# Altium integrated library Analog Devices Data Converters Analog-to-Digital Converters.IntLib: 2400 symbols (part 92 of 338)
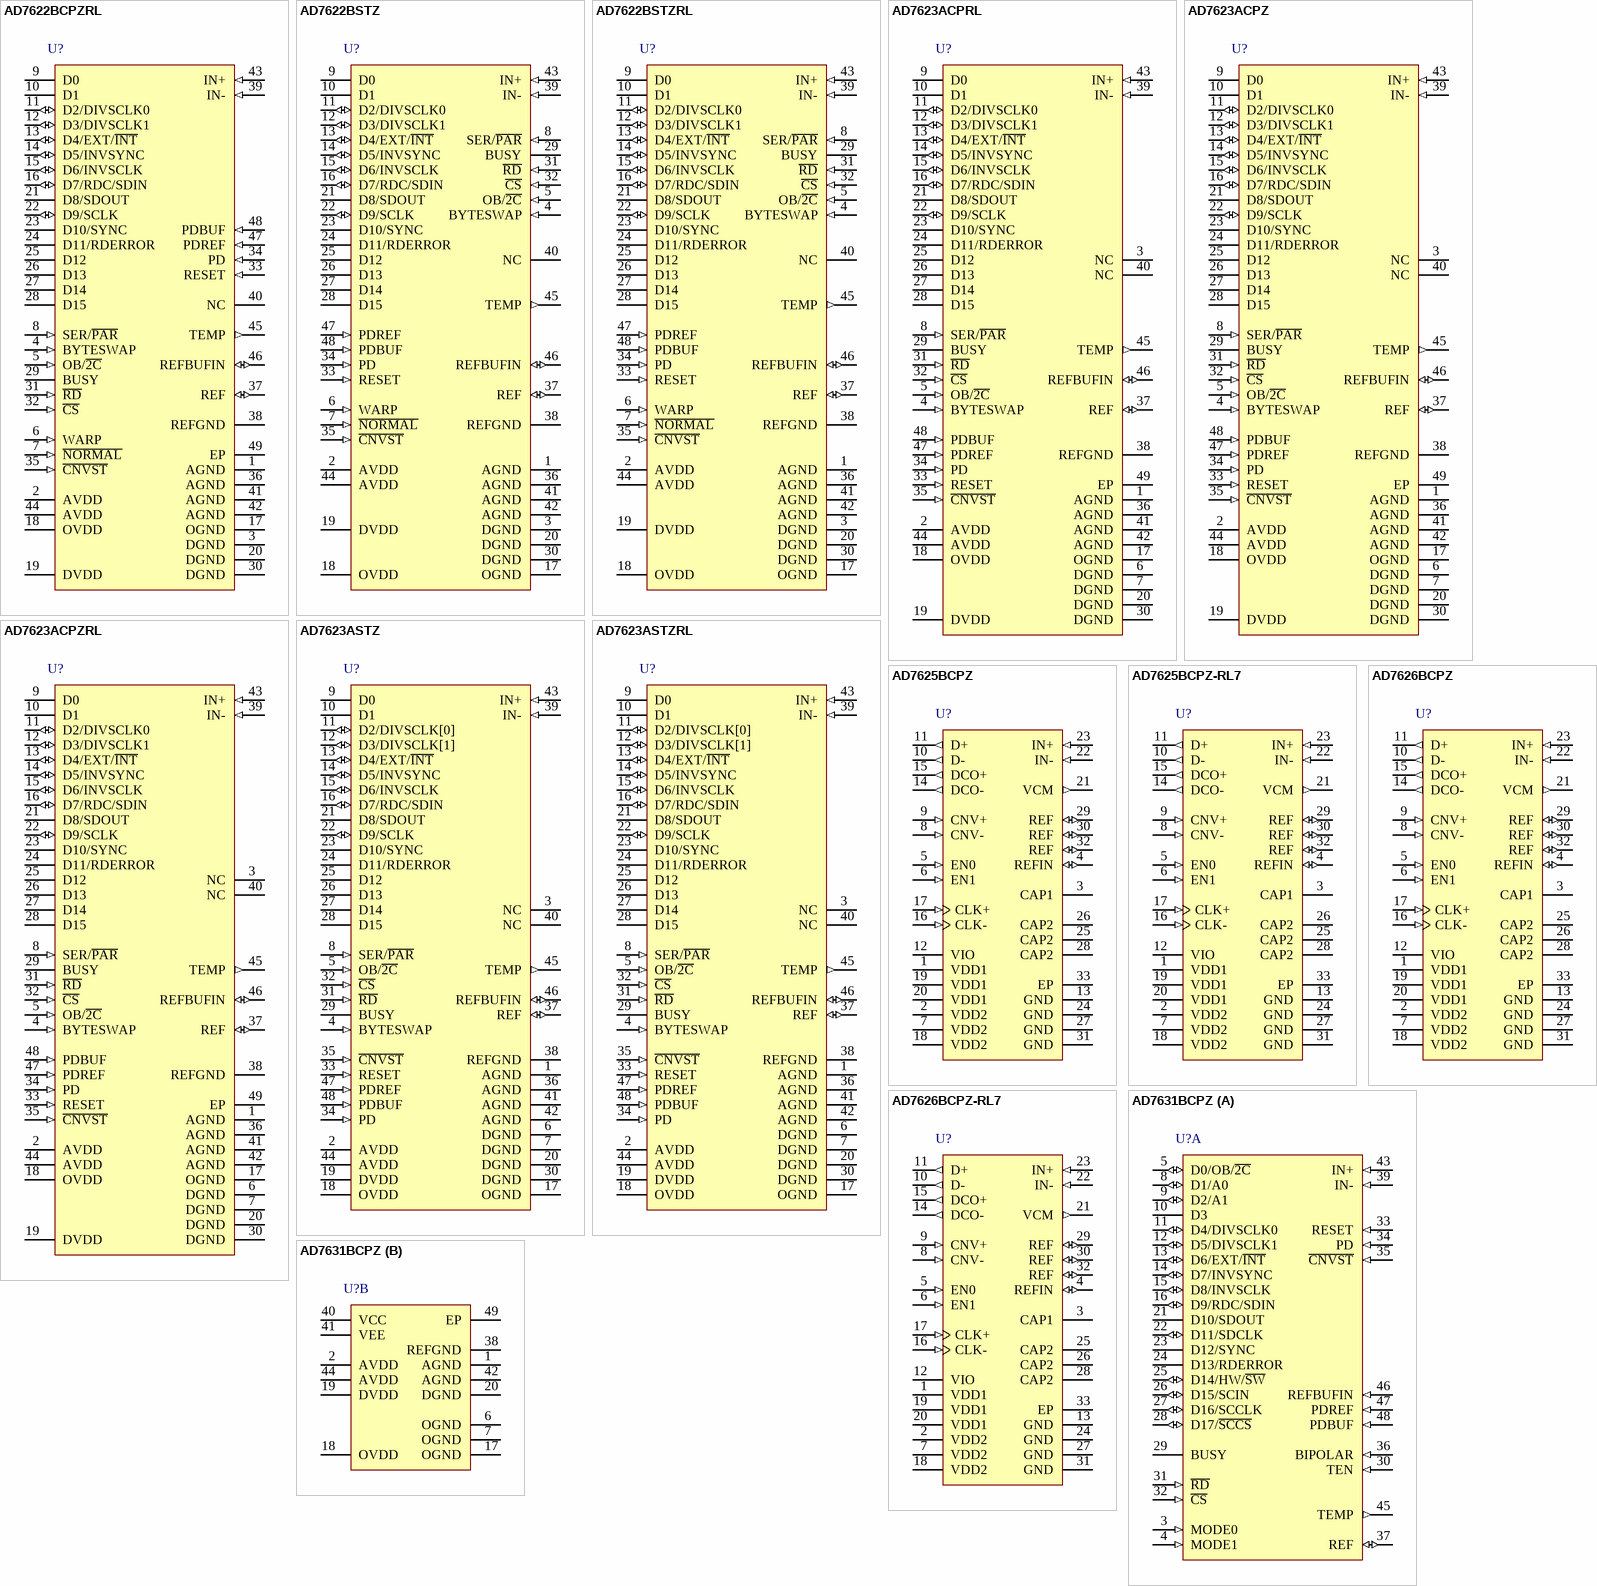
[diagram p308: symbols AD7622BCPZRL to AD7631BCPZ]

## AD7626BCPZ
designator U?
Single 16-Bit PulSAR Analog-to-Digital Converter with LVDS, Serial Interface, 10MSPS, -40 to +85 degC, CP-32-3, Pb-Free, Tray; Part Number: AD7626; Manufacturer: Analog Devices; Resolution (Bits): 16; Channels: 1; Throughput Rate (SPS): 10M; DatasheetVersion: Rev.A; PackageVersion: Jan-2005; PackageReference: CP-32-3; PackageDescription: 32-Lead Lead Frame Chip Scale Package [LFCSP_VQ] 5 x 5 mm Body, Very Thin Quad; Interface: LVDS, Ser; RoHS: Y; Packing: Tray; Mounting Technology: Surface Mount; Code_JEDEC: MO-220-VHHD-2; ComponentLink1Description: Manufacturer URL; ComponentLink1URL: http://www.analog.com/en/index.html; ComponentLink2Description: Datasheet; ComponentLink2URL: http://www.analog.com/static/imported-files/data_sheets/AD7626.pdf; ComponentLink3Description: Package Specification; ComponentLink3URL: http://www.analog.com/static/imported-files/packages/32877413525511988CP_32_3.pdf; ComponentLink4Description: Product URL; ComponentLink4URL: http://www.analog.com/en/analog-to-digital-converters/ad-converters/ad7626/products/product.html
footprint CP-32-3_N (QFN, 32-Leads, Body 5x5mm, Pitch 0.5mm, Thermal Pad 3.3x3.3mm, IPC Medium Density)
footprint CP-32-3_L (QFN, 32-Leads, Body 5x5mm, Pitch 0.5mm, Thermal Pad 3.3x3.3mm, IPC High Density)
footprint CP-32-3_M (QFN, 32-Leads, Body 5x5mm, Pitch 0.5mm, Thermal Pad 3.3x3.3mm, IPC Low Density)
pins: 1 VDD1 (power) "Analog 5 V Supply. Decouple the 5 V supply with a 100 nF capacitor.", 2 VDD2 (power) "Analog 2.5 V Supply. Decouple this pin with a 100 nF capacitor. The 2.5 V supply source should", 3 CAP1 "Connect this pin to a 10 nF capacitor.", 4 REFIN (io) "Prebuffer Reference Voltage. When using the internal reference, this pin outputs the band gap voltage and is nominally at 1.2 V. It can be overdriven with an external reference voltage such as the ADR280.In either internal (See Datasheet)", 5 EN0 (in) "Enable. Operates from 2.5 V logic. The logic levels of these pins set the operation of the device as follows:EN1 = 0, EN0 = 0: power-down mode.EN1 = 0, EN0 = 1: external 1.2 V reference applied to the REFIN pin required.EN1 (See Datasheet)", 6 EN1 (in) "Enable. Operates from 2.5 V logic. The logic levels of these pins set the operation of the device as follows:EN1 = 0, EN0 = 0: power-down mode.EN1 = 0, EN0 = 1: external 1.2 V reference applied to the REFIN pin required.EN1 (See Datasheet)", 7 VDD2 (power) "Digital 2.5 V Supply. Decouple this pin with a 100 nF capacitor.", 8 CNV- (in) "Convert Input. These pins act as the conversion control pin. On the rising edge of these pins, the analog inputs are sampled and a conversion cycle is initiated. CNV+ works as a CMOS input when CNV- is grounded; otherwise, (See Datasheet)", 9 CNV+ (in) "Convert Input. These pins act as the conversion control pin. On the rising edge of these pins, the analog inputs are sampled and a conversion cycle is initiated. CNV+ works as a CMOS input when CNV- is grounded; otherwise, (See Datasheet)", 10 D- (out) "LVDS Data Outputs. The conversion data is output serially on these pins.", 11 D+ (out) "LVDS Data Outputs. The conversion data is output serially on these pins.", 12 VIO (power) "Input/Output Interface Supply. Use a 2.5 V supply and decouple this pin with a 100 nF capacitor.", 13 GND (power) "Ground. Return path for the 100 nF capacitor connected to Pin 12.", 14 DCO- (out) "LVDS Buffered Clock Outputs. When DCO+ is grounded, the self-clocked interface mode is selected.In this mode, the 16-bit results on D are preceded by an initial 0 (which is output at the end of the previous conversion), (See Datasheet)", 15 DCO+ (out) "LVDS Buffered Clock Outputs. When DCO+ is grounded, the self-clocked interface mode is selected.In this mode, the 16-bit results on D are preceded by an initial 0 (which is output at the end of the previous conversion), (See Datasheet)", 16 CLK- (in) "LVDS Clock Inputs. This clock shifts out the conversion results on the falling edge of CLK+.", 17 CLK+ (in) "LVDS Clock Inputs. This clock shifts out the conversion results on the falling edge of CLK+.", 18 VDD2 (power) "Analog 2.5 V Supply. Decouple this pin with a 100 nF capacitor.", 19 VDD1 (power) "Analog 5 V Supply. Isolate these pins from Pin 1 with a ferrite bead and decouple them with a 100 nF capacitor.", 20 VDD1 (power) "Analog 5 V Supply. Isolate these pins from Pin 1 with a ferrite bead and decouple them with a 100 nF capacitor.", 21 VCM (out) "Common-Mode Output. When using any reference scheme, this pin produces one-half the voltage present on the REF pin, which can be useful for driving the common mode of the input amplifiers.", 22 IN- (in) "Differential Negative Analog Input. Referenced to and must be driven 180degrees out of phase with IN+.", 23 IN+ (in) "Differential Positive Analog Input. Referenced to and must be driven 180degrees out of phase with IN-.", 24 GND (power) "Ground.", 25 CAP2 "Connect all three CAP2 pins together and decouple them with the shortest trace possible to a single 10 uF, low ESR, low ESL capacitor. The other side of the capacitor must be placed close to Pin 27 (GND).", 26 CAP2 "Connect all three CAP2 pins together and decouple them with the shortest trace possible to a single 10 uF, low ESR, low ESL capacitor. The other side of the capacitor must be placed close to Pin 27 (GND).", 27 GND (power) "Ground. Return path for the 10 uF capacitor connected to Pin 25, Pin 26, and Pin 28.", 28 CAP2 "Connect all three CAP2 pins together and decouple them with the shortest trace possible to a single 10 uF, low ESR, low ESL capacitor. The other side of the capacitor must be placed close to Pin 27 (GND).", 29 REF (io) "Buffered Reference Voltage. When using the internal reference or the 1.2 V external reference (REFIN input), the 4.096 V system reference is produced at this pin. When using an external reference, such as the ADR434 or the (See Datasheet)", 30 REF (io) "Buffered Reference Voltage. When using the internal reference or the 1.2 V external reference (REFIN input), the 4.096 V system reference is produced at this pin. When using an external reference, such as the ADR434 or the (See Datasheet)", 31 GND (power) "Ground. Return path for the 10 uF capacitor connected to Pin 29, Pin 30, and Pin 32.", 32 REF (io) "Buffered Reference Voltage. When using the internal reference or the 1.2 V external reference (REFIN input), the 4.096 V system reference is produced at this pin. When using an external reference, such as the ADR434 or the (See Datasheet)", 33 EP (power) "The exposed pad is located on the underside of the package. Connect the exposed pad to the ground plane of the PCB using multiple vias. See the Exposed Paddle section for more information."